# Altium schematic symbol library 9774050151R.SchLib: 1 symbol
Pins are listed as number, name and electrical type; pins without a type are passive.

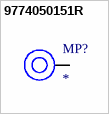
[diagram p0: symbol 9774050151R]

## 9774050151R
designator MP?
Value: *
pins: 1